# Altium footprint library SIM800C.PcbLib: 1 footprints
Each footprint in its own frame and in the unit in brackets; x right, y up, seen from the top. Pads: shape width x height; smd on the part's side, far side on the other; paste and mask are expansions set on the pad; w line width, h text height; cw(c..) or ccw(c..) is an arc to the next point about the centre after c.
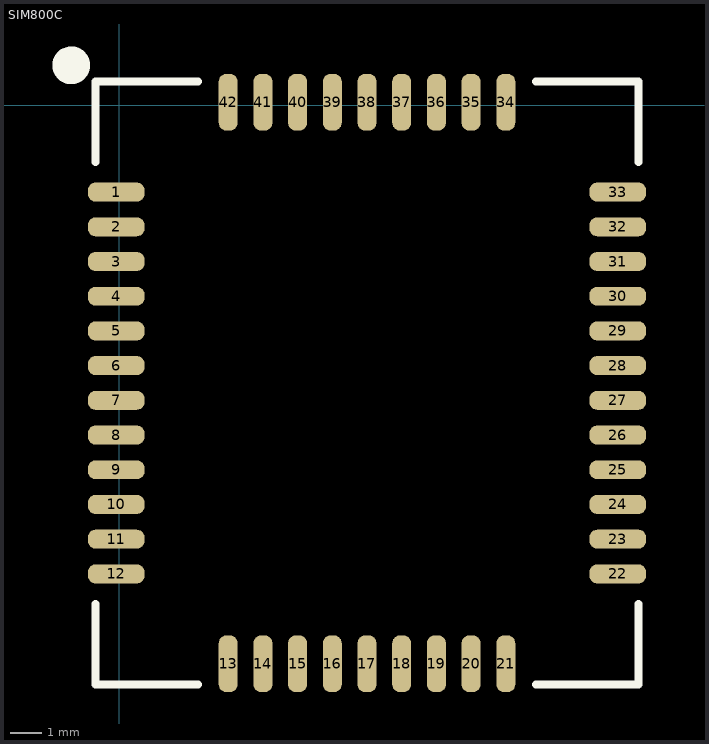
[diagram p0: the footprint, top view; thin cyan lines are the x and y axes]

## SIM800C [mm]
height 2
pads (42):
  rrect80% 1.8x0.6 smd: 1(-0.1,-2.75) 2(-0.1,-3.85) 3(-0.1,-4.95) 4(-0.1,-6.05) 5(-0.1,-7.15) 6(-0.1,-8.25) 7(-0.1,-9.35) 8(-0.1,-10.45) 9(-0.1,-11.55) 10(-0.1,-12.65) 11(-0.1,-13.75) 12(-0.1,-14.85) 22(15.8,-14.85) 23(15.8,-13.75) 24(15.8,-12.65) 25(15.8,-11.55) 26(15.8,-10.45) 27(15.8,-9.35) 28(15.8,-8.25) 29(15.8,-7.15) 30(15.8,-6.05) 31(15.8,-4.95) 32(15.8,-3.85) 33(15.8,-2.75)
  rrect80% 0.6x1.8 smd: 13(3.45,-17.7) 14(4.55,-17.7) 15(5.65,-17.7) 16(6.75,-17.7) 17(7.85,-17.7) 18(8.95,-17.7) 19(10.05,-17.7) 20(11.15,-17.7) 21(12.25,-17.7) 34(12.25,0.1) 35(11.15,0.1) 36(10.05,0.1) 37(8.95,0.1) 38(7.85,0.1) 39(6.75,0.1) 40(5.65,0.1) 41(4.55,0.1) 42(3.45,0.1)
Top Overlay:
  circle w0.6: c-1.524,1.27 r0.3
  region: 13.723,-2.45
  lines w0.254: -0.76,-15.81 -0.76,-18.36 2.49,-18.36 ; -0.76,-1.79 -0.76,0.76 2.49,0.76 ; 13.21,-18.36 16.46,-18.36 16.46,-15.81 ; 13.21,0.76 16.46,0.76 16.46,-1.79
3D body "SIM800C-1.x_t": height 2.48, standoff 0, extent 0,-17.6 15.7,0